# EAGLE library part L3GD20 (library L3GD20H)
MEMS motion sensor: three-axis digital output gyroscope
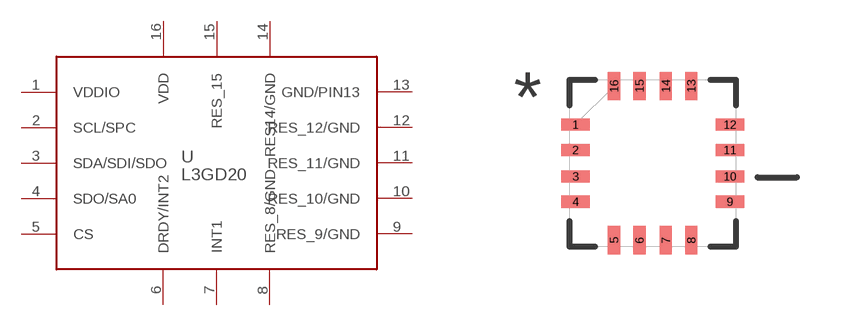
[diagram p0: symbol with the pads of LGA16R65P4X4_400X400X160; footprint LGA16R65P4X4_400X400X160]

Designator prefix U

## L3GD20  [LGA16R65P4X4_400X400X160]
1  VDDIO
2  SCL/SPC
3  SDA/SDI/SDO
4  SDO/SA0
5  CS
6  DRDY/INT2
7  INT1
8  RES_8/GND
9  RES_9/GND
10  RES_10/GND
11  RES_11/GND
12  RES_12/GND
13  GND/PIN13
14  RES14/GND
15  RES_15
16  VDD

## Footprint LGA16R65P4X4_400X400X160 (pad centres in mm)
smd 0.711 x 0.305: 1 -1.93,0.965; 2 -1.93,0.33; 3 -1.93,-0.33; 4 -1.93,-0.965; 9 1.93,-0.965; 10 1.93,-0.33; 11 1.93,0.33; 12 1.93,0.965
smd 0.305 x 0.711: 5 -0.965,-1.93; 6 -0.33,-1.93; 7 0.33,-1.93; 8 0.965,-1.93; 13 0.965,1.93; 14 0.33,1.93; 15 -0.33,1.93; 16 -0.965,1.93